# Altium schematic symbol library lib_lattice.SchLib: 2 symbols
Pins are listed as number, name and electrical type; pins without a type are passive.

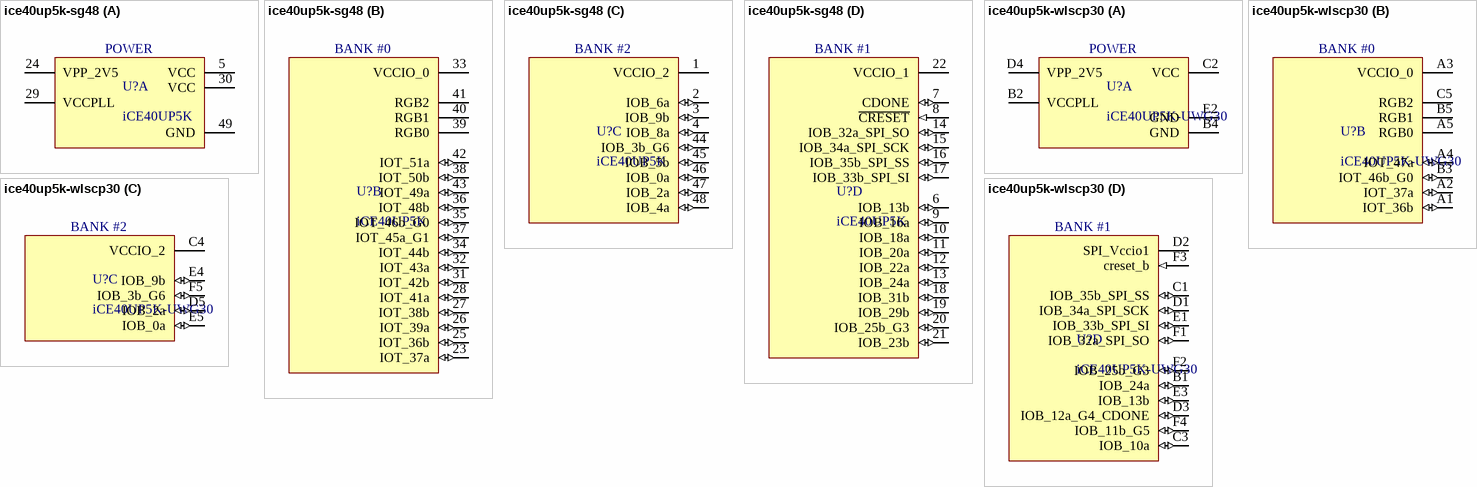
[diagram p0: symbols ice40up5k-sg48 to ice40up5k-wlscp30]

## ice40up5k-sg48
designator U?, comment iCE40UP5K
iCE40 UltraPlus family from Lattice Semiconductor is / an ultra-low power FPGA and sensor manager / designed for ultra / - / low power mobile a / pplications, such / as smartphones, tablets and hand-held devices.; ComponentLink1Description: datasheet; ComponentLink1URL: https://www.mouser.se/datasheet/2/225/iCE40%20UltraPlus%20Family%20Data%20Sheet-1149905.pdf; ComponentLink2Description: TN1252; ComponentLink2URL: http://www.latticesemi.com/view_document?document_id=47779; ComponentLink3Description: PINOUT; ComponentLink3URL: http://www.latticesemi.com/view_document?document_id=51971
footprint QFN127P600-8N-ICE40UP5K
part A pins: 5 VCC (power), 24 VPP_2V5 (power), 29 VCCPLL (power), 30 VCC (power), 49 GND (power)
part B pins: 23 IOT_37a (io), 25 IOT_36b (io), 26 IOT_39a (io), 27 IOT_38b (io), 28 IOT_41a (io), 31 IOT_42b (io), 32 IOT_43a (io), 33 VCCIO_0 (power), 34 IOT_44b (io), 35 IOT_46b_G0 (io), 36 IOT_48b (io), 37 IOT_45a_G1 (io), 38 IOT_50b (io), 39 RGB0 (oc), 40 RGB1 (oc), 41 RGB2 (oc), 42 IOT_51a (io), 43 IOT_49a (io)
part C pins: 1 VCCIO_2 (power), 2 IOB_6a (io), 3 IOB_9b (io), 4 IOB_8a (io), 44 IOB_3b_G6 (io), 45 IOB_5b (io), 46 IOB_0a (io), 47 IOB_2a (io), 48 IOB_4a (io)
part D pins: 6 IOB_13b (io), 7 CDONE (io), 8 ~{CRESET} (in), 9 IOB_16a (io), 10 IOB_18a (io), 11 IOB_20a (io), 12 IOB_22a (io), 13 IOB_24a (io), 14 IOB_32a_SPI_SO (io), 15 IOB_34a_SPI_SCK (io), 16 IOB_35b_SPI_SS (io), 17 IOB_33b_SPI_SI (io), 18 IOB_31b (io), 19 IOB_29b (io), 20 IOB_25b_G3 (io), 21 IOB_23b (io), 22 VCCIO_1 (power)
part A text: POWER
part B text: BANK #0
part C text: BANK #2
part D text: BANK #1

## ice40up5k-wlscp30
designator U?, comment iCE40UP5K-UWG30
iCE40 UltraPlus family from Lattice Semiconductor is / an ultra-low power FPGA and sensor manager.; ComponentLink1Description: datasheet; ComponentLink1URL: https://www.mouser.se/datasheet/2/225/iCE40%20UltraPlus%20Family%20Data%20Sheet-1149905.pdf; ComponentLink2Description: TN1252; ComponentLink2URL: http://www.latticesemi.com/view_document?document_id=47779
footprint BGA12C40P5X6_211X254X60-ice40up5k (BGA, 12-Leads, Body 2,11x2,54mmx0,60mm, Pitch 0,40mm)
part A pins: B2 VCCPLL (power), B4 GND (power), C2 VCC (power), D4 VPP_2V5 (power), E2 GND (power)
part B pins: A1 IOT_36b (io), A2 IOT_37a (io), A3 VCCIO_0 (power), A4 IOT_47a (io), A5 RGB0 (oc), B3 IOT_46b_G0 (io), B5 RGB1 (oc), C5 RGB2 (oc)
part C pins: C4 VCCIO_2 (power), D5 IOB_2a (io), E4 IOB_9b (io), E5 IOB_0a (io), F5 IOB_3b_G6 (io)
part D pins: B1 IOB_24a (io), C1 IOB_35b_SPI_SS (io), C3 IOB_10a (io), D1 IOB_34a_SPI_SCK (io), D2 SPI_Vccio1 (power), D3 IOB_12a_G4_CDONE (io), E1 IOB_33b_SPI_SI (io), E3 IOB_13b (io), F1 IOB_32a_SPI_SO (io), F2 IOB_25b_G3 (io), F3 creset_b (in), F4 IOB_11b_G5 (io)
part A text: POWER
part B text: BANK #0
part C text: BANK #2
part D text: BANK #1